# Altium schematic symbol library CRCW06031K00FKEA.SchLib: 1 symbol
Pins are listed as number, name and electrical type; pins without a type are passive.

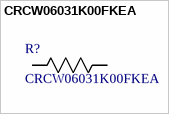
[diagram p0: symbol CRCW06031K00FKEA]

## CRCW06031K00FKEA
designator R?
D11/CRCW0603 100 1K 1% ET1 e3; Manufacturer_Name: Vishay; Copyright: Copyright (C) 2026 Ultra Librarian. All rights reserved.; Manufacturer_Part_Number: CRCW06031K00FKEA
footprint RES_CRCW_0603
pins: 1, 2